# Altium footprint library Discrete Semiconductors Pad Lib.PcbLib: 56 footprints (part 4 of 4)
Each footprint in its own frame and in the unit in brackets; x right, y up, seen from the top. Pads: shape width x height; smd on the part's side, far side on the other; paste and mask are expansions set on the pad; w line width, h text height; cw(c..) or ccw(c..) is an arc to the next point about the centre after c.
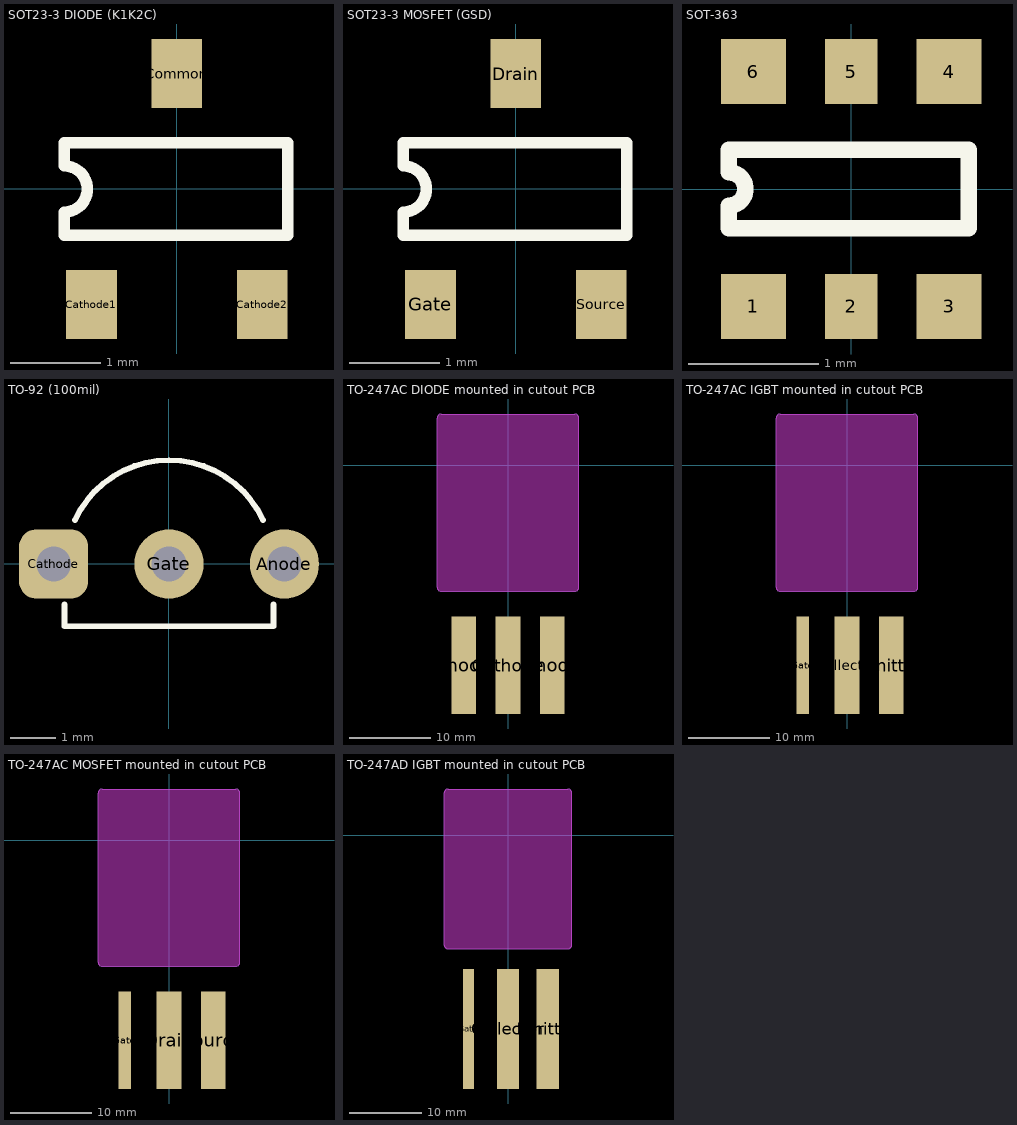
[diagram p3: the footprints below, top view; thin cyan lines are the x and y axes]

## SOT23-3 DIODE (K1K2C) [mil] "SOT23-3 (1-CathodeFirst; 2-CathodeSecond; 3-CommonAnode)"
pads (3):
  rect 22x30 smd: Cathode1(-37,-50) Cathode2(37,-50) Common(0,50)
Top Overlay:
  lines w5: -48.75,-20 -48.75,-10 ccw(c-48.75,0) -48.75,10 -48.75,20 48,20 48,-20 -48.75,-20
3D body: height 171, standoff -22, extent 48,0 48,0
3D body: height 171, standoff -22, extent 48,0 48,0
3D body "SOT23-3.step": height 51.18, standoff 0, extent -57.08,-55.11 57.09,55.12

## SOT23-3 MOSFET (GSD) [mil] "SOT23-3 MOSFET (1 - Gate; 2- Source; 3 - Drain)"
pads (3):
  rect 22x30 smd: Drain(0,50) Gate(-37,-50) Source(37,-50)
Top Overlay:
  lines w5: -48.75,-20 48,-20 48,20 -48.75,20 -48.75,10 cw(c-48.75,0) -48.75,-10 -48.75,-20
3D body: height 171, standoff -22, extent 48,0 48,0
3D body: height 171, standoff -22, extent 48,0 48,0
3D body "SOT23-3.step": height 51.18, standoff 0, extent -57.08,-55.11 57.09,55.12

## SOT-363 [mm] "SOT-363"
height 1
pads (6):
  rect 0.5x0.5 smd: 1(-0.75,-0.9) 3(0.75,-0.9) 4(0.75,0.9) 6(-0.75,0.9)
  rect 0.4x0.5 smd: 2(0,-0.9) 5(0,0.9)
Top Overlay:
  lines w0.127: -0.938,-0.3 0.9,-0.3 0.9,0.3 -0.938,0.3 -0.938,0.127 cw(c-0.938,0) -0.938,-0.127 -0.938,-0.3
3D body "SOT363.STEP": height 1, standoff 0, extent -1.05,-1.15 1.05,1.15

## TO-92 (100mil) [mil]
pads (3):
  round 60 hole 30: Anode(100,0) Gate(0,0)
  rrect50% 60x60 hole 30: Cathode(-100,0)
Top Overlay:
  lines w5: -90.55,-35 -90.55,-54 90.55,-54 90.55,-35 ; -81.57,38.04 cw(c0,0) 81.57,38.04
3D body: height 94.49, standoff 1.29, extent 0,0 0,0
3D body "TO-92 (100mil).STEP": height 334.65, standoff -157.48, extent -109.05,-53.93 109.06,98.43

## TO-247AC DIODE mounted in cutout PCB [mil] "DIODE TO247AC mounted in cutout PCB"
pads (3):
  rect 120x475 smd: Anode(-215,-975) Anode(215,-975) Cathode(0,-975)
Keep-Out Layer:
  board cut-out: -345,-595 -345,-598.98 -341.96,-606.33 -336.33,-611.96 -328.98,-615 -325,-615 325,-615 328.98,-615 336.33,-611.96 341.96,-606.33 345,-598.98 345,-595 345,230 345,233.98 341.96,241.33 336.33,246.96 328.98,250 325,250 -325,250 -328.98,250 -336.33,246.96 -341.96,241.33 -345,233.98 -345,230
Board:
  lines w5: -345,-595 ccw(c-325,-595) -325,-615 325,-615 ccw(c325,-595) 345,-595 345,230 ccw(c325,230) 325,250 -325,250 ccw(c-325,230) -345,230 -345,-595
3D body: height 171, standoff -22, extent 0,0 0,0
3D body: height 171, standoff -22, extent 0,0 0,0
3D body "TO-247AC.STEP": height 0, standoff -209.06, extent -311.02,-1202.29 311.03,216.93

## TO-247AC IGBT mounted in cutout PCB [mil] "IGBT TO247AC mounted in cutout PCB"
pads (3):
  rect 120x475 smd: Collector(0,-975) Emitter(215,-975)
  rect 60x475 smd: Gate(-215,-975)
Keep-Out Layer:
  board cut-out: -345,-595 -345,-598.98 -341.96,-606.33 -336.33,-611.96 -328.98,-615 -325,-615 325,-615 328.98,-615 336.33,-611.96 341.96,-606.33 345,-598.98 345,-595 345,230 345,233.98 341.96,241.33 336.33,246.96 328.98,250 325,250 -325,250 -328.98,250 -336.33,246.96 -341.96,241.33 -345,233.98 -345,230
Board:
  lines w5: -345,-595 ccw(c-325,-595) -325,-615 325,-615 ccw(c325,-595) 345,-595 345,230 ccw(c325,230) 325,250 -325,250 ccw(c-325,230) -345,230 -345,-595
3D body: height 171, standoff -22, extent 0,0 0,0
3D body: height 171, standoff -22, extent 0,0 0,0
3D body "TO-247AC.STEP": height 0, standoff -209.06, extent -311.02,-1202.29 311.03,216.93

## TO-247AC MOSFET mounted in cutout PCB [mil] "MOSFET TO247AC mounted in cutout PCB"
pads (3):
  rect 120x475 smd: Drain(0,-975) Source(215,-975)
  rect 60x475 smd: Gate(-215,-975)
Keep-Out Layer:
  board cut-out: -345,-595 -345,-598.98 -341.96,-606.33 -336.33,-611.96 -328.98,-615 -325,-615 325,-615 328.98,-615 336.33,-611.96 341.96,-606.33 345,-598.98 345,-595 345,230 345,233.98 341.96,241.33 336.33,246.96 328.98,250 325,250 -325,250 -328.98,250 -336.33,246.96 -341.96,241.33 -345,233.98 -345,230
Board:
  lines w5: -345,-595 ccw(c-325,-595) -325,-615 325,-615 ccw(c325,-595) 345,-595 345,230 ccw(c325,230) 325,250 -325,250 ccw(c-325,230) -345,230 -345,-595
3D body: height 171, standoff -22, extent 0,0 0,0
3D body: height 171, standoff -22, extent 0,0 0,0
3D body "TO-247AC.STEP": height 0, standoff -209.06, extent -311.02,-1202.29 311.03,216.93

## TO-247AD IGBT mounted in cutout PCB [mil] "IGBT TO247 mounted in cutout PCB"
pads (3):
  rect 120x650 smd: Collector(0,-1050) Emitter(215,-1050)
  rect 60x650 smd: Gate(-215,-1050)
Keep-Out Layer:
  board cut-out: -345,-595 -345,-598.98 -341.96,-606.33 -336.33,-611.96 -328.98,-615 -325,-615 325,-615 328.98,-615 336.33,-611.96 341.96,-606.33 345,-598.98 345,-595 345,230 345,233.98 341.96,241.33 336.33,246.96 328.98,250 325,250 -325,250 -328.98,250 -336.33,246.96 -341.96,241.33 -345,233.98 -345,230
Board:
  lines w5: -345,-595 ccw(c-325,-595) -325,-615 325,-615 ccw(c325,-595) 345,-595 345,230 ccw(c325,230) 325,250 -325,250 ccw(c-325,230) -345,230 -345,-595
3D body: height 171, standoff -22, extent 0,0 0,0
3D body: height 171, standoff -22, extent 0,0 0,0
3D body "TO-247AD.STEP": height 209.06, standoff 0, extent -311.02,-1359.77 311.03,216.93